# Altium schematic symbol library INA3221.Schlib: 1 symbol
Pins are listed as number, name and electrical type; pins without a type are passive.

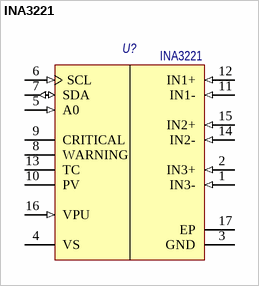
[diagram p0: symbol INA3221]

## INA3221
designator U?
Triple-Channel, High-Side Measurement, / Shunt and Bus Voltage Monitor with I2C- and SMBUS-Compatible Interface; Потребление, Вт: 0.001; ComponentLink1Description: Data sheet; ComponentLink1URL: https://www.ti.com/lit/ds/symlink/ina3221.pdf?ts=1635579800802&ref_url=https%253A%252F%252Fwww.ti.com%252Fproduct%252FINA3221; Назначение: Triple-Channel, High-Side Measurement,; Supplier Part Number 1: INA3221AIRGVT; Наименование: INA3221
footprint VQFN-16
pins: 1 IN3- (in) "Connect to load side of the channel 3 shunt resistor Bus voltage is the measurement from this pin to ground.", 2 IN3+ (in) "Connect to supply side of the channel 3 shunt resistor.", 3 GND (power) "Ground", 4 VS (power) "Power supply, 2.7 V to 5.5 V.", 5 A0 (in) "Address pin. Connect to GND, SCL, SDA, or VS", 6 SCL (in) "Serial bus clock line; open-drain input", 7 SDA (io) "Serial bus data line; open-drain input/output.", 8 WARNING (oc) "Averaged measurement warning alert; open-drain output.", 9 CRITICAL (oc) "Conversion-triggered critical alert; open-drain output.", 10 PV (oc) "Power valid alert; open-drain output", 11 IN1- (in) "Connect to load side of the channel 1 shunt resistor Bus voltage is the measurement from this pin to ground.", 12 IN1+ (in) "Connect to supply side of the channel 1 shunt resistor.", 13 TC (oc) "Timing control alert; open-drain output.", 14 IN2- (in) "Connect to load side of the channel 2 shunt resistor Bus voltage is the measurement from this pin to ground.", 15 IN2+ (in) "Connect to supply side of the channel 2 shunt resistor.", 16 VPU (in) "Pull-up supply voltage used to bias power valid output circuitry", 17 EP